# EAGLE library part LMR38010FDDAR (library ds_ic_vreg)
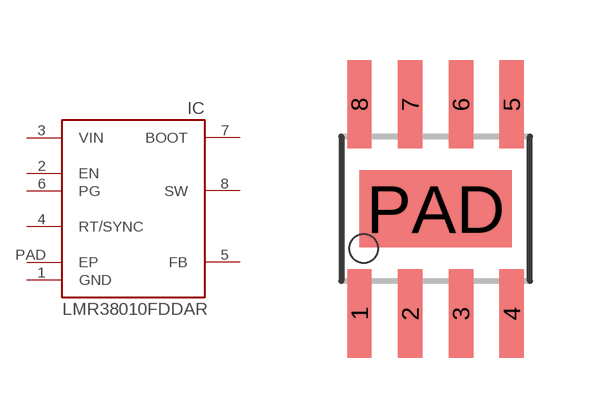
[diagram p28: symbol with the pads of SO8P; footprint SO8P]

Designator prefix IC

## LMR38010FDDAR (DATASHEET: https://www.ti.com/lit/ds/symlink/lmr38010.pdf; DESCRIPTION: -40℃~+150℃ 1 1A 1V~75V 2.2MHz 4.2V~80V 40uA Adjustable Buck Buck Built-In Yes SO-PowerPAD-8 DC-DC Converters ROHS; LCSC_PART: C5219308; MANUFACTURER: Texas Instruments; MPN: LMR38010FDDAR; ROHS: YES; VALUE: LMR38010FDDAR)  [SO8P]
1  GND  pwr
2  EN  in
3  VIN  pwr
4  RT/SYNC  out
5  FB  in
6  PG  out
7  BOOT  out
8  SW  out
PAD  EP  pwr

## Footprint SO8P (pad centres in mm)
smd 0.61 x 2.21: 1 -1.905,-2.616; 2 -0.635,-2.616; 3 0.635,-2.616; 4 1.905,-2.616; 5 1.905,2.616; 6 0.635,2.616; 7 -0.635,2.616; 8 -1.905,2.616
smd 3.81 x 1.93: PAD 0,0